# Altium footprint library custom-case-buttons.PcbLib: 12 footprints
Each footprint in its own frame and in the unit in brackets; x right, y up, seen from the top. Pads: shape width x height; smd on the part's side, far side on the other; paste and mask are expansions set on the pad; w line width, h text height; cw(c..) or ccw(c..) is an arc to the next point about the centre after c.
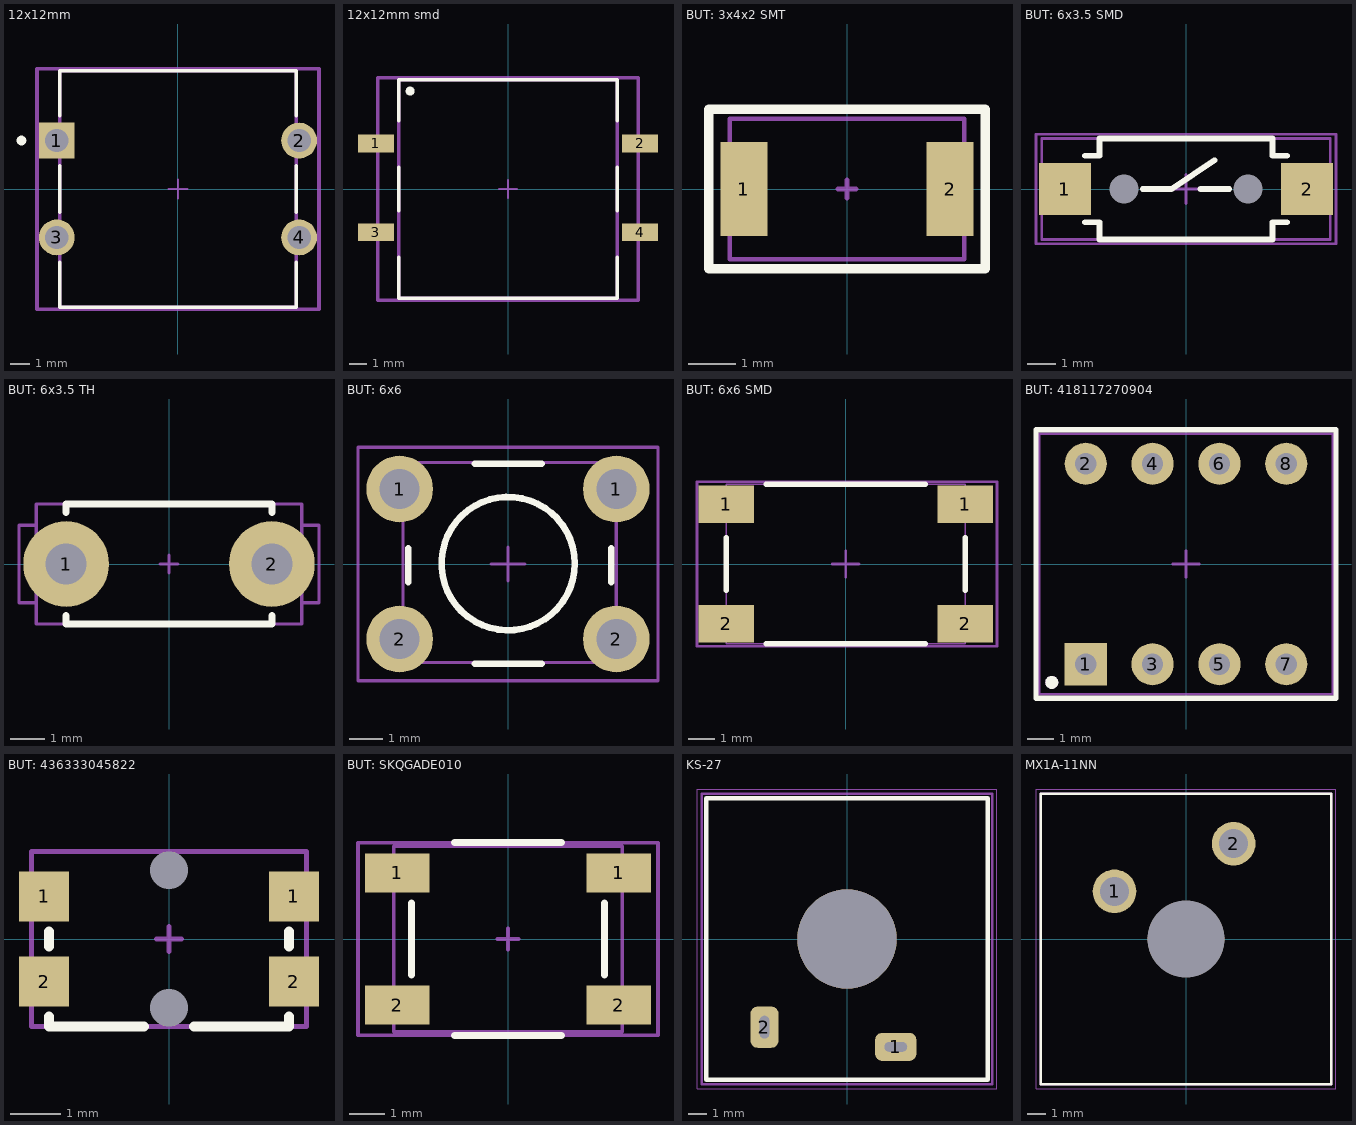
[diagram p0: the footprints below, top view; thin cyan lines are the x and y axes]

## 12x12mm [mm]
pads (4):
  rect 1.85x1.85 hole 1.2 paste-2539.97 mask+0: 1(-6.25,2.5)
  round 1.85 hole 1.2 paste-2539.97 mask+0: 2(6.25,2.5) 3(-6.25,-2.5) 4(6.25,-2.5)
Top Overlay:
  circle w0.25: c-8.075,2.5 r0.125
  lines w0.2: -6.1,-3.8 -6.1,-6.1 6.1,-6.1 6.1,-3.8 ; -6.1,-1.2 -6.1,1.2 ; -6.1,3.8 -6.1,6.1 6.1,6.1 6.1,3.8 ; 6.1,-1.2 6.1,1.2
Top 3D Body:
  lines w0.2: -6.1,-6.1 -6.1,6.1 6.1,6.1 6.1,-6.1 -6.1,-6.1
Top Courtyard:
  lines w0.2: -7.275,-6.2 -7.275,6.2 7.275,6.2 7.275,-6.2 -7.275,-6.2
Top Assembly:
  lines w0.2: -7.275,-6.2 -7.275,6.2 7.275,6.2 7.275,-6.2 -7.275,-6.2
Top Component Center:
  lines w0.1: -0.5,0 0.5,0 ; 0,-0.5 0,0.5
3D body "Switch_Omron_B3F-4000_eec.STEP": height 0.25, standoff 0, extent -7.275,-6.2 7.275,6.2

## 12x12mm smd [mm] "12x12"
pads (4):
  rect 2x1 smd paste-2539.97 mask+0: 1(-7.366,2.54) 2(7.366,2.54) 3(-7.366,-2.413) 4(7.366,-2.413)
Top Overlay:
  circle w0.25: c-5.461,5.461 r0.125
  lines w0.2: -6.1,-3.8 -6.1,-6.1 6.1,-6.1 6.1,-3.8 ; -6.1,-1.2 -6.1,1.2 ; -6.1,3.8 -6.1,6.1 6.1,6.1 6.1,3.8 ; 6.1,-1.2 6.1,1.2
Top 3D Body:
  lines w0.2: -6.1,-6.1 -6.1,6.1 6.1,6.1 6.1,-6.1 -6.1,-6.1
Top Courtyard:
  lines w0.2: -7.275,-6.2 -7.275,6.2 7.275,6.2 7.275,-6.2 -7.275,-6.2
Top Assembly:
  lines w0.2: -7.275,-6.2 -7.275,6.2 7.275,6.2 7.275,-6.2 -7.275,-6.2
Top Component Center:
  lines w0.1: -0.5,0 0.5,0 ; 0,-0.5 0,0.5
3D body "Switch_Omron_B3F-4000_eec.STEP": height 8.05, standoff 0.04, extent -6.905,-6.01 6.895,5.99

## BUT: 3x4x2 SMT [mm]
pads (2):
  rect 1x2 smd: 1(-2.2,0) 2(2.2,0)
Top Overlay:
  lines w0.2: -2.95,-1.7 2.95,-1.7 2.95,1.7 -2.95,1.7 -2.95,-1.7
Mechanical 1:
  lines w0.1: -2.5,-1.5 -2.5,1.5 2.5,1.5 2.5,-1.5 -2.5,-1.5
Mechanical 15:
  lines w0.1: -0.2,0 0.2,0 ; 0,-0.2 0,0.2 ; -2.95,-1.7 -2.95,1.7 2.95,1.7 2.95,-1.7 -2.95,-1.7
3D body "User Library-Pushbutton3x4x2.step": height 2, standoff 0, extent -2.45,-1.45 2.45,1.45

## BUT: 6x3.5 SMD [mm]
pads (4):
  rect 1.8x1.8 smd mask+0.075: 1(-4.2,0) 2(4.2,0)
  round 0 hole 1 mask+0.075: ""(-2.15,0) ""(2.15,0)
Top Overlay:
  lines w0.2: -3.5,-1.15 -3,-1.15 -3,-1.75 3,-1.75 3,-1.15 3.5,-1.15 ; -3.5,1.15 -3,1.15 -3,1.75 3,1.75 3,1.15 3.5,1.15 ; -1.5,0 -0.5,0 1,1 ; 0.5,0 1.5,0
Mechanical 1:
  lines w0.1: -1.5,0 -0.5,0 1,1 ; 0.5,0 1.25,0 ; -5,-1.75 5,-1.75 5,1.75 -5,1.75 -5,-1.75
Mechanical 15:
  lines w0.1: -0.5,0 0.5,0 ; 0,-0.5 0,0.5 ; -5.2,-1.9 5.2,-1.9 5.2,1.9 -5.2,1.9 -5.2,-1.9
3D body "User Library-DTSMF-32.STEP": height 5.05, standoff 0, extent -5,-1.75 5,1.75

## BUT: 6x3.5 TH [mm]
pads (2):
  round 2.5 hole 1.2 mask+0.075: 1(-3,0) 2(3,0)
Top Overlay:
  lines w0.2: -3,-1.5 -3,-1.75 3,-1.75 ; -3,1.5 -3,1.75 3,1.75 ; 3,-1.7 3,-1.5 ; 3,1.5 3,1.7
Mechanical 1:
  lines w0.1: -3.875,-1.75 3.875,-1.75 3.875,1.75 -3.875,1.75 -3.875,-1.75
Mechanical 15:
  lines w0.1: -0.25,0 0.25,0 ; 0,-0.25 0,0.25 ; -4.375,-1.125 -4.375,1.125 -3.875,1.125 -3.875,1.75 3.875,1.75 3.875,1.125 4.375,1.125 4.375,-1.125 3.875,-1.125 3.875,-1.75 -3.875,-1.75 -3.875,-1.125 -4.375,-1.125
3D body "User Library-DTS-32.STEP": height 5.1, standoff -3.41, extent -3.878,-1.75 3.878,1.75

## BUT: 6x6 [mm] "Leaded Tactile Button 6x6"
height 5
pads (4):
  round 2 hole 1.2: 1(-3.25,2.25) 1(3.25,2.25) 2(-3.25,-2.25) 2(3.25,-2.25)
Top Overlay:
  circle w0.2: c0.004,0.012 r2
  lines w0.2: -2.996,-0.544 -2.996,0.472 ; -0.996,-2.988 1.004,-2.988 ; -0.996,3.012 1.004,3.012 ; 3.1,-0.544 3.1,0.472
Mechanical 1:
  lines w0.1: -3.148,-2.957 -3.148,3.043 3.252,3.043 3.252,-2.957 -3.148,-2.957
Mechanical 15:
  lines w0.1: -0.5,0 0.5,0 ; 0,-0.5 0,0.5 ; -4.5,-3.5 4.5,-3.5 4.5,3.5 -4.5,3.5 -4.5,-3.5
3D body "������_��������_6�6�1.STEP": height 4.5, standoff -0.9, extent -3.148,-2.957 3.252,3.043

## BUT: 6x6 SMD [mm] "Leaded Tactile Button 6x6"
height 9
pads (4):
  rect 2.1x1.4 smd: 1(-4.5,2.25) 1(4.5,2.25) 2(-4.5,-2.25) 2(4.5,-2.25)
Top Overlay:
  lines w0.2: -4.5,-1 -4.5,1 ; -3,-3 3,-3 ; -3,3 3,3 ; 4.5,-1 4.5,1
Mechanical 1:
  lines w0.05: -4.5,-3 4.5,-3 4.5,3 -4.5,3 -4.5,-3
Mechanical 15:
  lines w0.1: -0.5,0 0.5,0 ; 0,-0.5 0,0.5 ; -5.6,-3.1 -5.6,3.1 5.7,3.1 5.7,-3.1 -5.6,-3.1
3D body "User Library-PTS645SL43SMTR92-LFS.STEP": height 4.3, standoff 0, extent -4.5,-3 4.5,3

## BUT: 418117270904 [mm]
pads (10):
  rect 1.6x1.6 hole 0.8: 1(-3.81,-3.81)
  round 1.6 hole 0.8: 2(-3.81,3.81) 3(-1.27,-3.81) 4(-1.27,3.81) 5(1.27,-3.81) 6(1.27,3.81) 7(3.81,-3.81) 8(3.81,3.81)
  round 0.5 on Mech1: ""(-5.1,-4.5)
  round 0.5 on Top Overlay: ""(-5.1,-4.5)
Top Overlay:
  lines w0.2: -5.7,-5.1 5.7,-5.1 5.7,5.1 -5.7,5.1 -5.7,-5.1
Mechanical 1:
  lines w0.1: -5.58,-4.95 5.58,-4.95 5.58,4.95 -5.58,4.95 -5.58,-4.95
Mechanical 15:
  lines w0.1: -0.5,0 0.5,0 ; 0,-0.5 0,0.5 ; -5.7,-5.1 5.7,-5.1 5.7,5.1 -5.7,5.1 -5.7,-5.1
3D body "418117270904 (rev1).stp": height 6.9, standoff -3.65, extent -5.58,-4.95 5.58,4.95

## BUT: 436333045822 [mm]
pads (6):
  rect 1x1 smd: 1(-2.5,0.85) 1(2.5,0.85) 2(-2.5,-0.85) 2(2.5,-0.85)
  round 0 hole 0.75: MH(0,-1.375) MH(0,1.375)
Top Overlay:
  lines w0.2: -2.4,-1.55 -2.4,-1.75 -0.5,-1.75 ; -2.4,-0.15 -2.4,0.15 ; 0.5,-1.75 2.4,-1.75 2.4,-1.55 ; 2.4,-0.15 2.4,0.15
Mechanical 1:
  lines w0.1: -2.75,-1.75 2.75,-1.75 2.75,1.75 -2.75,1.75 -2.75,-1.75
Mechanical 15:
  lines w0.1: -0.25,0 0.25,0 ; 0,-0.25 0,0.25 ; -2.75,-1.75 -2.75,1.75 2.75,1.75 2.75,-1.75 -2.75,-1.75
3D body "436333045822_Download_STP_436333045822_rev1.stp": height 1.65, standoff -0.5, extent -2.75,-1.75 2.75,2.75

## BUT: SKQGADE010 [mm]
pads (4):
  rect 1.8x1.1 smd: 1(-3.1,1.85) 1(3.1,1.85) 2(-3.1,-1.85) 2(3.1,-1.85)
Top Overlay:
  lines w0.2: -2.7,-1 -2.7,1 ; -1.5,-2.7 1.5,-2.7 ; -1.5,2.7 1.5,2.7 ; 2.7,-1 2.7,1
Mechanical 1:
  lines w0.1: -3.2,-2.6 3.2,-2.6 3.2,2.6 -3.2,2.6 -3.2,-2.6
Mechanical 15:
  lines w0.1: -0.3,0 0.3,0 ; 0,-0.3 0,0.3 ; -4.2,-2.7 4.2,-2.7 4.2,2.7 -4.2,2.7 -4.2,-2.7
3D body "User Library-4x4_SMD_Switch.STEP": height 1.45, standoff -0.05, extent -3.2,-2.6 3.2,2.6

## KS-27 [mm] "Keyboard Switch"
pads (3):
  rrect50% 2.2x1.5 hole 0.5 slot 1.2 at 0 deg: 1(2.6,-5.75)
  rrect50% 1.5x2.2 hole 0.5 slot 1.2 at 90 deg: 2(-4.4,-4.7)
  round 5.3 hole 5.3 unplated: ""(0,0)
Top Overlay:
  lines w0.254: -7.5,-7.5 7.5,-7.5 7.5,7.5 -7.5,7.5 -7.5,-7.5
Mechanical 13:
  lines w0.127: -7.747,-7.747 7.747,-7.747 7.747,7.747 -7.747,7.747 -7.747,-7.747
Mechanical 15:
  lines w0.05: -7.997,-7.997 7.997,-7.997 7.997,7.997 -7.997,7.997 -7.997,-7.997
3D body "KS-33 Low Profile 2.0  KS33-20230109(KS-33-Y31  3D?).stp": height 9.15, standoff -3, extent -7.5,-7.5 7.5,7.5

## MX1A-11NN [mil] "Keyboard Switch"
pads (3):
  round 91.5 hole 61: 1(-150,100) 2(100,200)
  round 161 hole 161 unplated: ""(0,0)
Top Overlay:
  lines w5: -305,-305 305,-305 305,305 -305,305 -305,-305
Mechanical 13:
  lines w5: -305,-305 305,-305 305,305 -305,305 -305,-305
Mechanical 15:
  lines w1.97: -314.84,-314.84 314.84,-314.84 314.84,314.84 -314.84,314.84 -314.84,-314.84
3D body "step_temp.STEP": height 600, standoff -130, extent -305,-318.78 305,318.78